# Altium footprint library DMD_Card.PcbLib: 16 footprints
Each footprint in its own frame and in the unit in brackets; x right, y up, seen from the top. Pads: shape width x height; smd on the part's side, far side on the other; paste and mask are expansions set on the pad; w line width, h text height; cw(c..) or ccw(c..) is an arc to the next point about the centre after c.
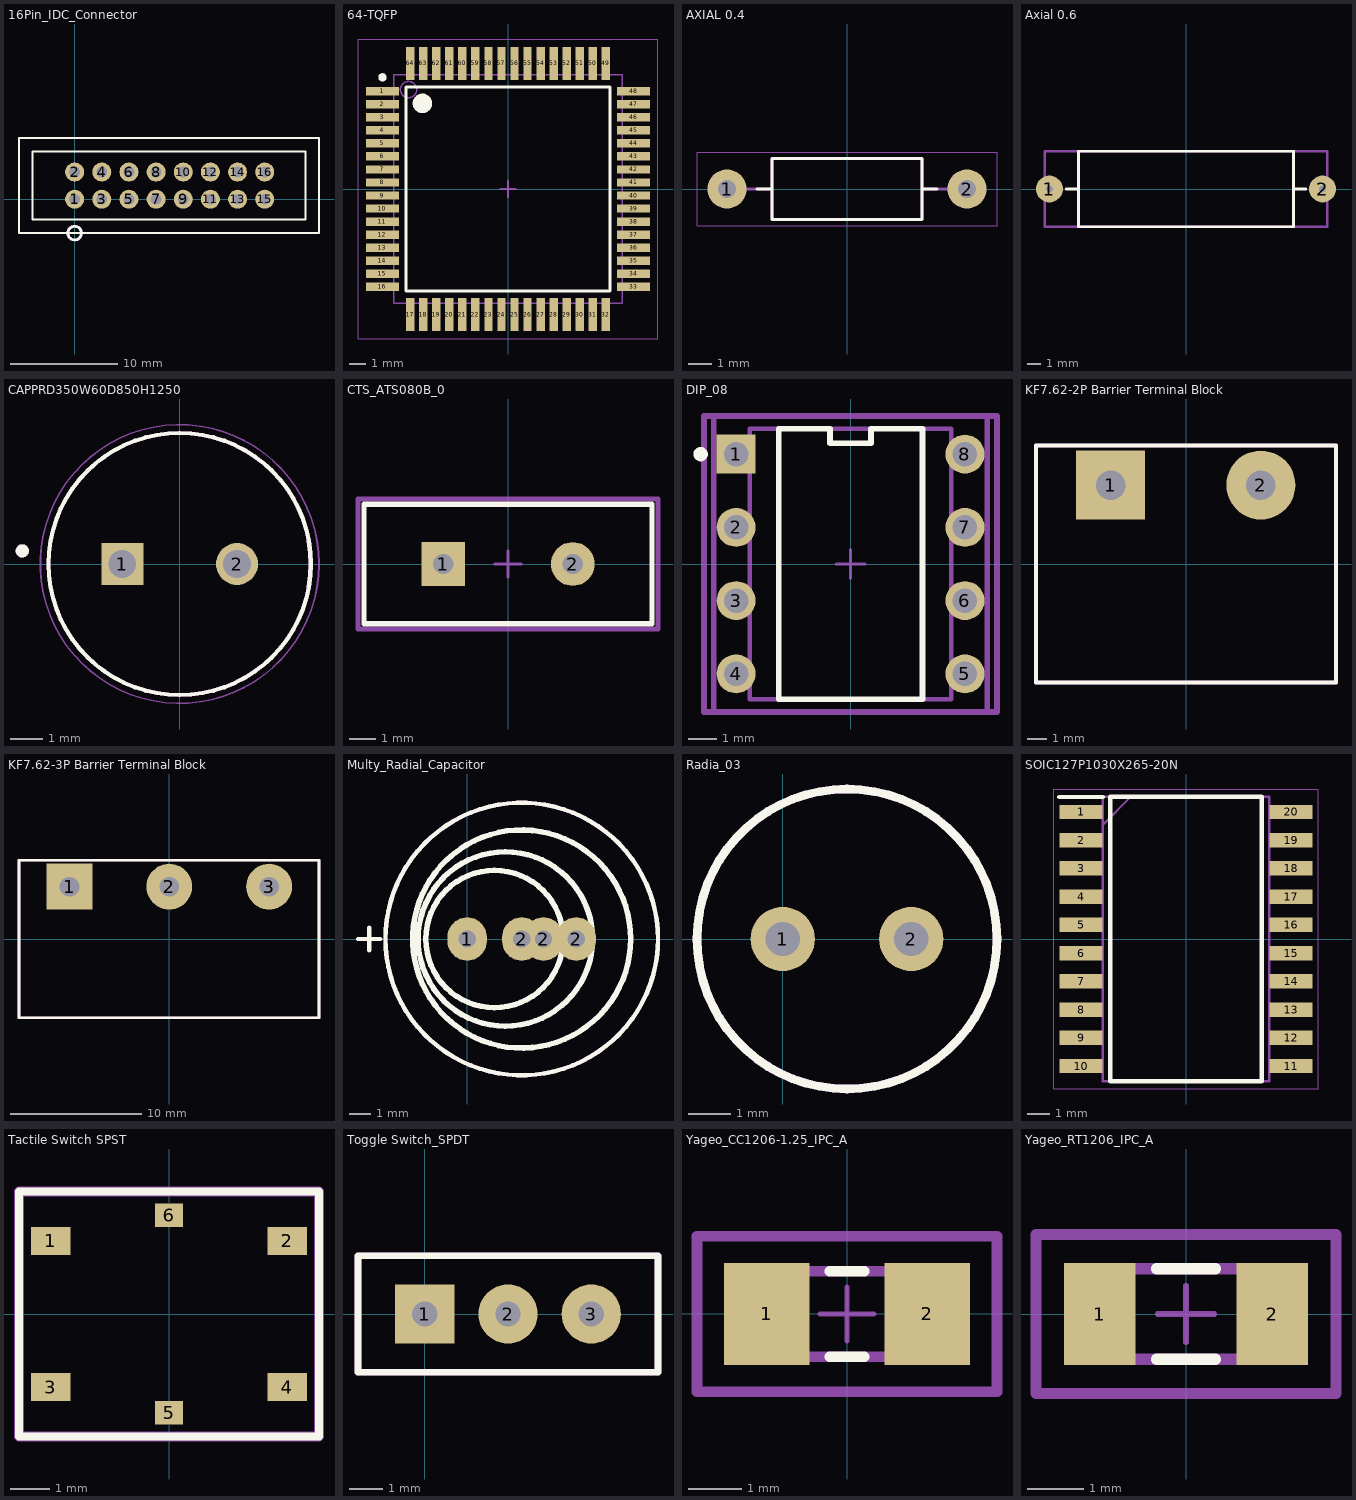
[diagram p0: the footprints below, top view; thin cyan lines are the x and y axes]

## 16Pin_IDC_Connector [mil]
pads (16):
  round 70 hole 40: 1(0,0) 2(0,100) 3(100,0) 4(100,100) 5(200,0) 6(200,100) 7(300,0) 8(300,100) 9(400,0) 10(400,100) 11(500,0) 12(500,100) 13(600,0) 14(600,100) 15(700,0) 16(700,100)
Top Overlay:
  circle w10: c0,-125 r25
  lines w7.87: -205,-125 900,-125 900,225 775,225 -205,225 -205,-125 ; -155,-75 -155,175 850,175 850,-75 -155,-75
Mechanical 1:
  circle w10: c0,-125 r25
  lines w7.87: -205,-125 900,-125 900,225 775,225 -205,225 -205,-125
3D body "DS1013-16S (IDC-16MS CONNFLY).step": height 354.33, standoff -141.73, extent -207.08,-125.2 900,225.2

## 64-TQFP [mm] "Thin QFP, 64-Leads, Body 14x14mm, Pitch 0.8mm, IPC Low Density"
height 1.2
pads (64):
  rect 2.032x0.508 smd: 1(-7.7,6) 2(-7.7,5.2) 3(-7.7,4.4) 4(-7.7,3.6) 5(-7.7,2.8) 6(-7.7,2) 7(-7.7,1.2) 8(-7.7,0.4) 9(-7.7,-0.4) 10(-7.7,-1.2) 11(-7.7,-2) 12(-7.7,-2.8) 13(-7.7,-3.6) 14(-7.7,-4.4) 15(-7.7,-5.2) 16(-7.7,-6) 33(7.7,-6) 34(7.7,-5.2) 35(7.7,-4.4) 36(7.7,-3.6) 37(7.7,-2.8) 38(7.7,-2) 39(7.7,-1.2) 40(7.7,-0.4) 41(7.7,0.4) 42(7.7,1.2) 43(7.7,2) 44(7.7,2.8) 45(7.7,3.6) 46(7.7,4.4) 47(7.7,5.2) 48(7.7,6)
  rect 0.508x2.032 smd: 17(-6,-7.7) 18(-5.2,-7.7) 19(-4.4,-7.7) 20(-3.6,-7.7) 21(-2.8,-7.7) 22(-2,-7.7) 23(-1.2,-7.7) 24(-0.4,-7.7) 25(0.4,-7.7) 26(1.2,-7.7) 27(2,-7.7) 28(2.8,-7.7) 29(3.6,-7.7) 30(4.4,-7.7) 31(5.2,-7.7) 32(6,-7.7) 49(6,7.7) 50(5.2,7.7) 51(4.4,7.7) 52(3.6,7.7) 53(2.8,7.7) 54(2,7.7) 55(1.2,7.7) 56(0.4,7.7) 57(-0.4,7.7) 58(-1.2,7.7) 59(-2,7.7) 60(-2.8,7.7) 61(-3.6,7.7) 62(-4.4,7.7) 63(-5.2,7.7) 64(-6,7.7)
Top Overlay:
  circle w0.6: c-5.25,5.25 r0.3
  circle w0.25: c-7.7,6.85 r0.125
  lines w0.2: -6.25,-6.25 6.25,-6.25 6.25,6.25 -6.25,6.25 -6.25,-6.25
Mechanical 1:
  circle w0.1: c-6.1,6.1 r0.5
  lines w0.1: -7,-7 -7,7 7,7 7,-7 -7,-7
  text ".Designator" at 0,0 h1
Mechanical 15:
  lines w0.05: -9.2,-9.2 9.2,-9.2 9.2,9.2 -9.2,9.2 -9.2,-9.2
  lines w0.1: -0.5,0 0.5,0 ; 0,-0.5 0,0.5
3D body "Atmega64 (tqfp64).step": height 1.12, standoff 0.01, extent -7.993,-8.003 8.007,7.997

## AXIAL 0.4 [mil]
pads (2):
  round 65 hole 30: 1(-200,0) 2(200,0)
Top Overlay:
  lines w5: -150,0 -125,0 ; 150,0 125,0 ; -125,0 -125,-7.68 -125,-51.18 125,-51.18 125,0 ; -125,0 -125,51.18 125,51.18 125,0
Mechanical 1:
  lines w5: -176.38,0 -125,0 ; 125,0 175,0 ; -125,0 -125,-7.68 -125,-51.18 125,-51.18 125,25.39 125,51.18 -125,51.18 -125,0
  text ".Designator" at 0,0 h39.37
Mechanical 15:
  lines w1.97: -250,-61.02 -127.17,-61.02 160.24,-61.02 250,-61.02 250,61.02 160.24,61.02 -127.17,61.02 -250,61.02 -250,-61.02
3D body "R-Axial-0_25W-10_16.step": height 97.35, standoff -146.85, extent -211.81,-47.35 211.81,47.36

## Axial 0.6 [mm]
pads (2):
  round 2 hole 0.5: 1(-10.16,0) 2(10.16,0)
Top Overlay:
  lines w0.2: -8.9,0 -8,0 ; 8,0 8.9,0 ; -8,-2.8 8,-2.8 8,2.8 -8,2.8 -8,-2.8
Mechanical 1:
  lines w0.2: -10.5,-2.8 -10.5,2.8 10.5,2.8 10.5,-2.8 -10.5,-2.8
  text ".Designator" at 0,0 h1
3D body "RES-2W.STEP": height 5.5, standoff -3, extent -10.52,-2.75 10.5,2.75

## CAPPRD350W60D850H1250 [mm]
pads (2):
  rect 1.28x1.28 hole 0.85: 1(-1.75,0)
  round 1.28 hole 0.85: 2(1.75,0)
Top Overlay:
  circle w0.2: c-4.8,0.4 r0.1
  circle w0.127: c0,0 r4
Mechanical 13:
  circle w0.2: c-4.8,0.4 r0.1
  circle w0.127: c0,0 r4
Mechanical 15:
  circle w0.05: c0,0 r4.25

## CTS_ATS080B_0 [mil]
pads (2):
  rect 65x65 hole 30 paste-39370.1 mask+0: 1(-96.06,0)
  round 65 hole 30 paste-39370.1 mask+0: 2(96.06,0)
Top Overlay:
  lines w7.87: -213.58,-88.58 -213.58,88.58 213.58,88.58 213.58,-88.58 -213.58,-88.58
Mechanical 1:
  lines w7.87: -222.44,-96.46 -222.44,96.46 222.44,96.46 222.44,-96.46 -222.44,-96.46
  text ".Designator" at 0,0 h39.37
Mechanical 12:
  lines w5.91: -213.58,-88.58 -213.58,88.58 213.58,88.58 213.58,-88.58 -213.58,-88.58
Mechanical 15:
  lines w3.94: -19.68,0 19.68,0 ; 0,-19.68 0,19.68
  lines w7.87: -222.44,-96.46 -222.44,96.46 222.44,96.46 222.44,-96.46 -222.44,-96.46
3D body "Crys_CTS_ATS080B_eec.STEP": height 10, standoff 0, extent -222.44,-96.46 222.44,96.46

## DIP_08 [mm]
pads (8):
  rect 1.35x1.35 hole 0.85 paste-1000 mask+0: 1(-3.97,3.81)
  round 1.35 hole 0.85 paste-1000 mask+0: 2(-3.97,1.27) 3(-3.97,-1.27) 4(-3.97,-3.81) 5(3.97,-3.81) 6(3.97,-1.27) 7(3.97,1.27) 8(3.97,3.81)
Top Overlay:
  circle w0.25: c-5.2,3.81 r0.125
  lines w0.2: -2.492,-4.687 2.492,-4.687 2.492,4.687 0.712,4.687 0.712,4.187 -0.712,4.187 -0.712,4.687 -2.492,4.687 -2.492,-4.687
Mechanical 1:
  lines w0.2: -5.08,-5.13 5.08,-5.13 5.08,5.13 -5.08,5.13 -5.08,-5.13
  text ".Designator" at 0,0 h1
Mechanical 12:
  lines w0.15: -3.492,-4.687 -3.492,4.687 3.492,4.687 3.492,-4.687 -3.492,-4.687
Mechanical 15:
  lines w0.1: -0.5,0 0.5,0 ; 0,-0.5 0,0.5
  lines w0.2: -4.745,-5.13 -4.745,5.13 4.745,5.13 4.745,-5.13 -4.745,-5.13
3D body "a_08-lc-tt.stp": height 5.11, standoff -3.14, extent -5.08,-5.08 5.08,5.08
3D body "User Library-DIP-8P-M01.step": height 8.17, standoff 0.81, extent -3.933,-4.7 3.937,4.7

## KF7.62-2P Barrier Terminal Block [mm]
pads (2):
  rect 3.5x3.5 hole 1.5: 1(-3.825,4)
  round 3.5 hole 1.5: 2(3.795,4)
Top Overlay:
  lines w0.2: 7.557,6.001 -7.605,6 -7.605,-6 7.605,-6 7.605,6
Mechanical 1:
  lines w0.2: 7.557,6.001 -7.605,6 -7.605,-6 7.605,-6 7.605,6
  text ".Designator" at 0,0 h1
3D body "KF7_62-2P.STEP": height 12.41, standoff -6.29, extent -7.625,-6 7.615,6

## KF7.62-3P Barrier Terminal Block [mm]
pads (3):
  rect 3.5x3.5 hole 1.5: 1(-7.596,4)
  round 3.5 hole 1.5: 2(0.024,4) 3(7.644,4)
Top Overlay:
  lines w0.2: 11.406,6.001 -11.454,6 -11.454,-6 11.454,-6 11.454,6
Mechanical 1:
  lines w0.2: 11.406,6.001 -11.454,6 -11.454,-6 11.454,-6 11.454,6
  text ".Designator" at 0,0 h1
3D body "KF7_62-2P.STEP": height 12.41, standoff -6.29, extent -3.776,-6 11.464,6
3D body "KF7_62-2P.STEP": height 12.41, standoff -6.29, extent -11.476,-6 3.764,6

## Multy_Radial_Capacitor [mm]
pads (4):
  oval 1.8x2 hole 0.8: 1(0,0) 2(2.5,0) 2(3.5,0) 2(5,0)
Top Overlay:
  circle w0.2: c2.5,0 r6.25
  circle w0.254: c1.25,0 r3.15
  circle w0.254: c1.75,0 r4
  circle w0.254: c2.5,0 r5
  lines w0.2: -5.008,0 -3.992,0 ; -4.5,-0.508 -4.5,0.508
Mechanical 13:
  circle w0.2: c2.5,0 r6.25
3D body "Cap-EL(12_5x20-5)T.step": height 20.5, standoff -3.5, extent -3.75,-6.25 8.752,6.25

## Radia_03 [mm]
pads (2):
  round 1.5 hole 0.8: 1(0,0) 2(3,0)
Top Overlay:
  circle w0.2: c1.5,0 r3.5
Mechanical 1:
  circle w0.2: c1.5,0 r3.5
3D body "RLB 0812.STEP": height 10.01, standoff -2.99, extent -1.85,-3.35 4.85,3.35

## SOIC127P1030X265-20N [mm]
pads (20):
  rect 1.95x0.65 smd: 1(-4.725,5.715) 2(-4.725,4.445) 3(-4.725,3.175) 4(-4.725,1.905) 5(-4.725,0.635) 6(-4.725,-0.635) 7(-4.725,-1.905) 8(-4.725,-3.175) 9(-4.725,-4.445) 10(-4.725,-5.715) 11(4.725,-5.715) 12(4.725,-4.445) 13(4.725,-3.175) 14(4.725,-1.905) 15(4.725,-0.635) 16(4.725,0.635) 17(4.725,1.905) 18(4.725,3.175) 19(4.725,4.445) 20(4.725,5.715)
Top Overlay:
  lines w0.2: -5.7,6.39 -3.75,6.39 ; -3.4,-6.4 3.4,-6.4 3.4,6.4 -3.4,6.4 -3.4,-6.4
Mechanical 1:
  lines w0.1: -3.75,5.13 -2.48,6.4 ; -3.75,-6.4 -3.75,6.4 3.75,6.4 3.75,-6.4 -3.75,-6.4
  text ".Designator" at 0,0 h1
Mechanical 15:
  lines w0.05: -5.95,-6.75 5.95,-6.75 5.95,6.75 -5.95,6.75 -5.95,-6.75
3D body "SN74LS245DW.stp": height 2.65, standoff 0, extent -5.15,-6.4 5.15,6.4

## Tactile Switch SPST [mm]
pads (6):
  rect 1x0.7 smd: 1(-3,1.85) 2(3,1.85) 3(-3,-1.85) 4(3,-1.85)
  rect 0.7x0.6 smd: 5(0,-2.5) 6(0,2.5)
Top Overlay:
  lines w0.2: -3.8,-3.1 -3.8,3.1 3.8,3.1 3.8,-3.1 -3.8,-3.1
Mechanical 1:
  lines w0.2: -3.8,-3.1 3.8,-3.1 3.8,3.1 -3.8,3.1 -3.8,-3.1
  text ".Designator" at 0,0 h1
Mechanical 29:
  lines w0.254: -3.8,-3.1 -3.8,3.1 3.8,3.1 3.8,-3.1 -3.8,-3.1
  text "'.Designator'" at 0.1,0.333 h0.7
3D body "SKQGAD.stp": height 1.51, standoff 0.01, extent -3.2,-2.6 3.2,2.6

## Toggle Switch_SPDT [mil]
pads (3):
  rect 70x70 hole 30: 1(0,0)
  round 70 hole 30: 2(98.43,0) 3(196.85,0)
Top Overlay:
  lines w7.87: -78.74,-68.9 275.59,-68.9 275.59,68.9 -78.74,68.9 -78.74,-68.9
Mechanical 1:
  lines w7.87: -78.74,-68.9 275.59,-68.9 275.59,68.9 -78.74,68.9 -78.74,-68.9
  text ".Designator" at 0,0 h39.37
3D body "SS12D00G4.step": height 216.54, standoff -157.48, extent -78.74,-70.87 275.59,70.87

## Yageo_CC1206-1.25_IPC_A [mm]
pads (2):
  rect 1.603x1.906 smd paste+0 mask+0: 1(-1.5,0) 2(1.5,0)
Top Overlay:
  lines w0.2: -0.324,-0.8 0.324,-0.8 ; -0.324,0.8 0.324,0.8
Mechanical 1:
  lines w0.2: -2.802,-1.453 2.802,-1.453 2.802,1.453 -2.802,1.453 -2.802,-1.453
  text ".Designator" at 0,0 h1
Mechanical 12:
  lines w0.2: -1.6,-0.8 1.6,-0.8 1.6,0.8 -1.6,0.8 -1.6,-0.8
Mechanical 15:
  lines w0.1: -0.5,0 0.5,0 ; 0,-0.5 0,0.5
  lines w0.2: -2.802,-1.453 2.802,-1.453 2.802,1.453 -2.802,1.453 -2.802,-1.453
3D body "Cap_Yageo_CC1206KRX7R9BB104_eec.STEP": height 0.25, standoff 0, extent -2.802,-1.453 2.802,1.453

## Yageo_RT1206_IPC_A [mm]
pads (2):
  rect 1.258x1.812 smd paste+0 mask+0: 1(-1.527,0) 2(1.527,0)
Top Overlay:
  lines w0.2: -0.523,-0.8 0.523,-0.8 ; -0.523,0.8 0.523,0.8
Mechanical 1:
  lines w0.2: -2.656,-1.406 2.656,-1.406 2.656,1.406 -2.656,1.406 -2.656,-1.406
  text ".Designator" at 0,0 h1
Mechanical 12:
  lines w0.2: -1.55,-0.8 1.55,-0.8 1.55,0.8 -1.55,0.8 -1.55,-0.8
Mechanical 15:
  lines w0.1: -0.5,0 0.5,0 ; 0,-0.5 0,0.5
  lines w0.2: -2.656,-1.406 2.656,-1.406 2.656,1.406 -2.656,1.406 -2.656,-1.406
3D body "Res_Yageo_RT1206BRD0710KL_eec.STEP": height 0.25, standoff 0, extent -2.656,-1.415 2.656,1.397